# Altium footprint library MyPcbLib.PcbLib: 66 footprints (part 1 of 5)
Each footprint in its own frame and in the unit in brackets; x right, y up, seen from the top. Pads: shape width x height; smd on the part's side, far side on the other; paste and mask are expansions set on the pad; w line width, h text height; cw(c..) or ccw(c..) is an arc to the next point about the centre after c.
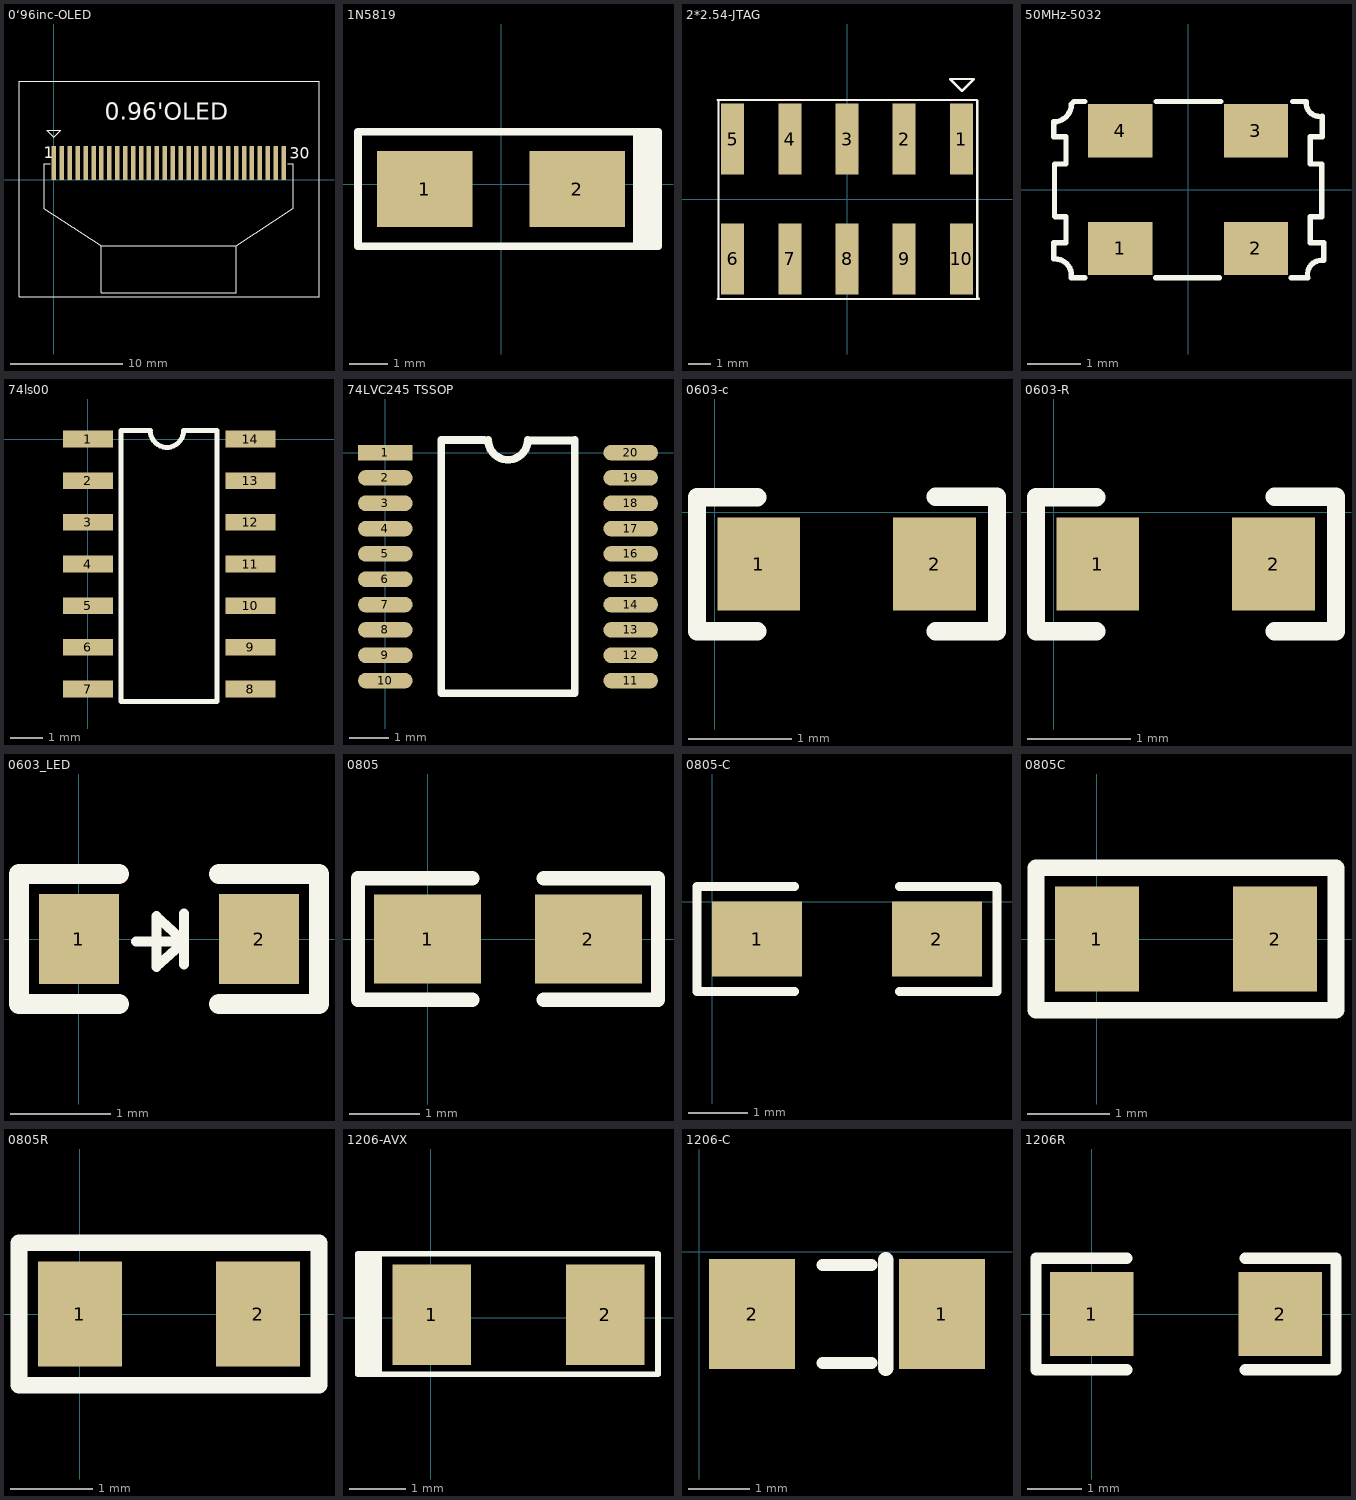
[diagram p0: the footprints below, top view; thin cyan lines are the x and y axes]

## 0‘96inc-OLED [mm]
height 2
pads (30):
  rect 0.4x3 smd: 1(0.008,1.5) 2(0.713,1.5) 3(1.417,1.5) 4(2.122,1.5) 5(2.827,1.5) 6(3.532,1.5) 7(4.237,1.5) 8(4.941,1.5) 9(5.646,1.5) 10(6.351,1.5) 11(7.056,1.5) 12(7.761,1.5) 13(8.465,1.5) 14(9.17,1.5) 15(9.875,1.5) 16(10.58,1.5) 17(11.285,1.5) 18(11.989,1.5) 19(12.694,1.5) 20(13.399,1.5) 21(14.104,1.5) 22(14.809,1.5) 23(15.513,1.5) 24(16.218,1.5) 25(16.923,1.5) 26(17.628,1.5) 27(18.333,1.5) 28(19.037,1.5) 29(19.742,1.5) 30(20.447,1.5)
Top Overlay:
  lines w0.1: -0.33,1.422 -0.838,1.422 -0.838,-2.591 4.216,-5.867 ; 16.231,-5.893 16.231,-10.033 4.216,-10.033 4.216,-5.867 ; 20.803,1.422 21.311,1.422 21.311,-2.507 16.23,-5.867 4.216,-5.867 ; -3.099,-10.414 23.597,-10.414 23.597,8.788 -3.099,8.788 -3.099,-10.414 ; -0.61,4.394 0,3.785 0.61,4.394 -0.61,4.394
  text "0.96'OLED" at 4.547,5.359 h1.52
  text "30" at 21.006,1.88 h1
  text "1" at -0.889,1.93 h1

## 1N5819 [mm]
height 2
pads (2):
  rect 2.5x2 smd: 1(-2,-0.127) 2(2,-0.127)
Top Overlay:
  lines w0.2: 3.556,1.372 3.556,-1.626 4.115,-1.626 4.115,1.372 3.75,1.372 3.75,-1.584 ; 3.75,-1.627 -3.75,-1.627 -3.75,-0.127 -3.75,1.373 3.937,1.373 3.937,-1.626

## 2*2.54-JTAG [mm]
height 10
pads (10):
  rect 1.02x3.17 smd: 1(5.08,2.665) 2(2.54,2.665) 3(0,2.665) 4(-2.54,2.665) 5(-5.08,2.665) 6(-5.08,-2.665) 7(-2.54,-2.665) 8(0,-2.665) 9(2.54,-2.665) 10(5.08,-2.665)
Top Overlay:
  lines w0.1: -5.74,4.394 5.766,4.394 5.791,4.369 5.791,-4.369 5.867,-4.445 -5.74,-4.445 -5.715,-4.42 -5.715,4.394 ; 4.572,5.334 5.639,5.334 5.105,4.801 4.572,5.334

## 50MHz-5032 [mm]
height 2
pads (4):
  rect 1.2x1 smd mask+0.2: 1(-1.27,-1.1) 2(1.27,-1.1) 3(1.27,1.1) 4(-1.27,1.1)
Top Overlay:
  lines w0.1: -2.516,1.269 ccw(c-2.516,1.6) -2.184,1.6 -2.133,1.651 -1.93,1.651 ; -2.515,-1.295 -2.515,-0.991 -2.286,-0.991 -2.286,-0.508 -2.489,-0.508 ; -2.515,1.245 -2.515,0.991 -2.286,0.991 -2.286,0.483 -2.5,0.483 -2.5,-0.5 ; -2.489,-1.295 cw(c-2.489,-1.6) -2.184,-1.6 ; -2.184,-1.651 -1.93,-1.651 ; -0.61,-1.651 0.584,-1.651 ; -0.597,1.651 0.61,1.651 ; 1.93,-1.651 2.235,-1.651 ; 1.956,1.651 2.21,1.651 ; 2.21,1.649 ccw(c2.464,1.626) 2.514,1.375 ; 2.242,-1.649 cw(c2.502,-1.587) 2.54,-1.323 ; 2.515,1.372 2.515,0.991 2.286,0.991 2.286,0.483 2.5,0.483 2.5,-0.508 2.286,-0.508 2.286,-0.991 2.54,-0.991 2.54,-1.321

## 74ls00 [mil]
pads (14):
  rect 60x20 smd: 1(0,0) 2(0,-50) 3(0,-100) 4(0,-150) 5(0,-200) 6(0,-250) 7(0,-300) 8(195,-300) 9(195,-250) 10(195,-200) 11(195,-150) 12(195,-100) 13(195,-50) 14(195,0)
Top Overlay:
  lines w6: 40,-315 40,10 75,10 ccw(c95,10) 115,10 155,10 155,-315 40,-315
3D body: height 63.39, standoff 0, extent -24.04,-321.26 220.05,21.26

## 74LVC245 TSSOP [mm]
pads (20):
  rect 1.4x0.4 smd: 1(0,0)
  oval 1.4x0.4 smd: 2(0,-0.65) 3(0,-1.3) 4(0,-1.95) 5(0,-2.6) 6(0,-3.25) 7(0,-3.9) 8(0,-4.55) 9(0,-5.2) 10(0,-5.85) 11(6.3,-5.85) 12(6.3,-5.2) 13(6.3,-4.55) 14(6.3,-3.9) 15(6.3,-3.25) 16(6.3,-2.6) 17(6.3,-1.95) 18(6.3,-1.3) 19(6.3,-0.65) 20(6.3,0)
Top Overlay:
  lines w0.2: 2.54,0.325 1.435,0.325 1.435,-6.175 4.865,-6.175 4.865,0.325 ; 2.642,0.325 ccw(c3.15,0.325) 3.658,0.325 ; 3.683,0.31 4.788,0.31

## 0603-c [mm]
pads (2):
  rect 0.8x0.9 smd: 1(0.425,-0.5) 2(2.125,-0.5)
Top Overlay:
  lines w0.178: 0.412,-1.148 -0.171,-1.148 -0.171,0.146 0.412,0.146 ; 2.139,-1.148 2.729,-1.148 2.729,0.15 2.139,0.15
3D body: height 0.89, standoff -0.01, extent -0.023,-1 2.577,0

## 0603-R [mm]
pads (2):
  rect 0.8x0.9 smd: 1(0.425,-0.5) 2(2.125,-0.5)
Top Overlay:
  lines w0.178: 0.412,-1.148 -0.171,-1.148 -0.171,0.146 0.412,0.146 ; 2.139,-1.148 2.729,-1.148 2.729,0.15 2.139,0.15
3D body: height 0.3, standoff 0, extent 0.495,-0.883 2.095,-0.083

## 0603_LED [mm]
pads (2):
  rect 0.8x0.9 smd: 1(0,0) 2(1.8,0)
Top Overlay:
  lines w0.1: 1.052,-0.254 1.052,0.254 ; 1.052,0 1.052,-0.025 ; 1.052,-0.025 0.773,-0.279 0.773,0.229 1.052,-0.025 ; 1.052,-0.025 0.57,-0.025 1.052,-0.025
  lines w0.2: 0.4,-0.65 -0.6,-0.65 -0.6,0.65 0.4,0.65 ; 1.4,-0.65 2.4,-0.65 2.4,0.65 1.4,0.65
3D body: height 0.6, standoff 0, extent 0.054,-0.375 1.674,0.425

## 0805 [mil]
pads (2):
  rect 60x50 smd: 1(0,0) 2(90,0)
Top Overlay:
  lines w8: 25,-34 -39,-34 -39,34 25,34 ; 65,-34 129,-34 129,34 65,34
3D body: height 21.65, standoff 0, extent 5.64,-24.8 84.38,24.81

## 0805-C [mil]
pads (2):
  rect 60x50 smd: 1(30,-25) 2(150,-25)
Top Overlay:
  lines w5.91: 55,-60 -10,-60 -10,10 55,10 ; 125,-60 190,-60 190,10 125,10

## 0805C [mil]
pads (2):
  rect 40x50 smd: 1(0,0) 2(85,0)
Top Overlay:
  lines w8: 114,-34 -29,-34 -29,34 114,34 114,-33
3D body: height 30.39, standoff -0.39, extent 3.15,-24.61 81.89,24.61

## 0805R [mil]
pads (2):
  rect 40x50 smd: 1(0,0) 2(85,0)
Top Overlay:
  lines w8: -29,-34 -29,34 114,34 114,-34 -29,-34
3D body: height 30.39, standoff -0.39, extent 3.26,-24.61 82,24.61

## 1206-AVX [mm]
pads (2):
  rect 1.4x1.8 smd: 1(0.025,0.051) 2(3.125,0.051)
Top Overlay:
  lines w0.1: -1.219,-0.991 -1.219,1.092 ; -1.143,-0.991 -1.143,1.092 ; -1.067,-0.991 -1.067,1.118 ; -0.991,-0.991 -0.991,1.118 ; -0.914,-0.965 -0.914,1.118 ; -1.295,-1.016 4.064,-1.016 4.064,1.143 -1.295,1.143 -1.295,-1.016
3D body: height 0.95, standoff -0.01, extent -0.564,-0.849 3.636,0.951

## 1206-C [mm]
pads (2):
  rect 1.4x1.8 smd: 1(3.963,-1.016) 2(0.863,-1.016)
Top Overlay:
  lines w0.2: 2.013,-1.816 2.813,-1.816 ; 2.013,-0.216 2.813,-0.216
  lines w0.254: 3.048,-1.905 3.048,-0.127
3D body: height 0.95, standoff -0.01, extent 0.351,-1.916 4.551,-0.116

## 1206R [mil]
pads (2):
  rect 60x60 smd: 1(0,0) 2(135,0)
Top Overlay:
  lines w8: 25,-40 -40,-40 -40,40 25,40 ; 110,-40 175,-40 175,40 110,40
3D body: height 23.62, standoff 0, extent 4.01,-30.49 130,32.5